# Altium footprint library Footprints.PcbLib: 1 footprints
Each footprint in its own frame and in the unit in brackets; x right, y up, seen from the top. Pads: shape width x height; smd on the part's side, far side on the other; paste and mask are expansions set on the pad; w line width, h text height; cw(c..) or ccw(c..) is an arc to the next point about the centre after c.
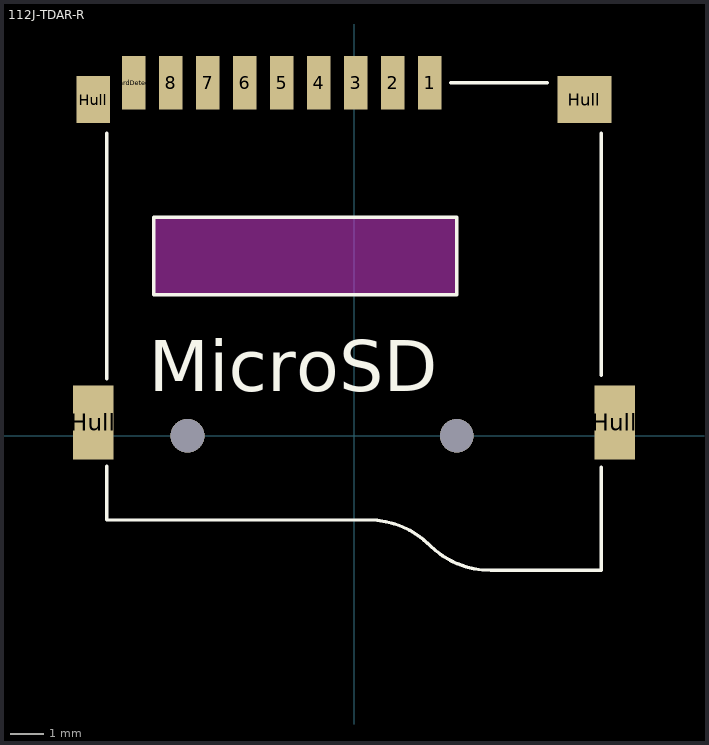
[diagram p0: the footprint, top view; thin cyan lines are the x and y axes]

## 112J-TDAR-R [mm] "MicroSD slot w card detect"
height 2
pads (13):
  rect 0.7x1.6 smd: 1(2.25,10.5) 2(1.15,10.5) 3(0.05,10.5) 4(-1.05,10.5) 5(-2.15,10.5) 6(-3.25,10.5) 7(-4.35,10.5) 8(-5.45,10.5) CardDetect(-6.55,10.5)
  rect 1.2x2.2 smd: Hull(-7.75,0.4) Hull(7.75,0.4)
  rect 1x1.4 smd paste+0: Hull(-7.75,10)
  rect 1.6x1.4 smd: Hull(6.85,10)
via 3.05,0 diameter 1 hole 1
via -4.95,0 diameter 1 hole 1
Top Layer keep-out:
  region: -5.95,6.5 3.05,6.5 3.05,4.2 -5.95,4.2
Top Overlay:
  lines w0.1: -7.35,-0.9 -7.35,-2.5 0.439,-2.5 cw(c0.439,-5.061) 2.25,-3.25 ccw(c4.061,-1.439) 4.061,-4 7.35,-4 7.35,-0.925 ; -7.35,1.7 -7.35,9 ; 2.875,10.5 5.75,10.5 ; 7.35,1.8 7.35,9 ; -5.95,4.2 3.05,4.2 3.05,6.5 -5.95,6.5 -5.95,4.2
  text "MicroSD" at -6.1,1.325 h1.52
3D body "112J-TXAR-R_C_1-1.STEP": height 1.85, standoff -0.6, extent -8.05,-4 8.05,11.003